# EAGLE library part MSP430F2274 (library GuShH)
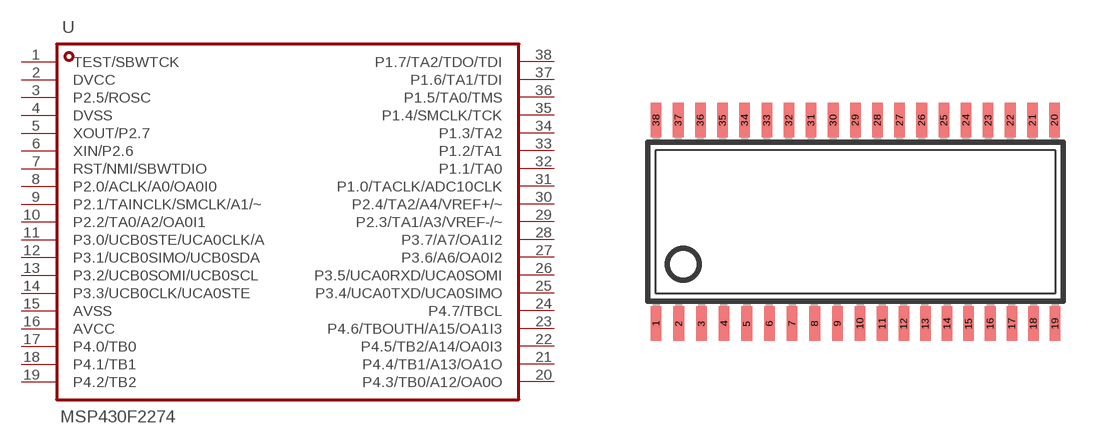
[diagram p9: symbol with the pads of 38-TSSOP; footprint 38-TSSOP]

Designator prefix -

## MSP430F2274IDAR  [38-TSSOP]
1  TEST/SBWTCK
2  DVCC
3  P2.5/ROSC
4  DVSS
5  XOUT/P2.7
6  XIN/P2.6
7  RST/NMI/SBWTDIO
8  P2.0/ACLK/A0/OA0I0
9  P2.1/TAINCLK/SMCLK/A1/~
10  P2.2/TA0/A2/OA0I1
11  P3.0/UCB0STE/UCA0CLK/A
12  P3.1/UCB0SIMO/UCB0SDA
13  P3.2/UCB0SOMI/UCB0SCL
14  P3.3/UCB0CLK/UCA0STE
15  AVSS
16  AVCC
17  P4.0/TB0
18  P4.1/TB1
19  P4.2/TB2
20  P4.3/TB0/A12/OA0O
21  P4.4/TB1/A13/OA1O
22  P4.5/TB2/A14/OA0I3
23  P4.6/TBOUTH/A15/OA1I3
24  P4.7/TBCL
25  P3.4/UCA0TXD/UCA0SIMO
26  P3.5/UCA0RXD/UCA0SOMI
27  P3.6/A6/OA0I2
28  P3.7/A7/OA1I2
29  P2.3/TA1/A3/VREF-/~
30  P2.4/TA2/A4/VREF+/~
31  P1.0/TACLK/ADC10CLK
32  P1.1/TA0
33  P1.2/TA1
34  P1.3/TA2
35  P1.4/SMCLK/TCK
36  P1.5/TA0/TMS
37  P1.6/TA1/TDI
38  P1.7/TA2/TDO/TDI

## Footprint 38-TSSOP (pad centres in mm)
smd 0.305 x 0.991: 1 -5.465,-2.918; 2 -4.815,-2.918; 3 -4.165,-2.918; 4 -3.515,-2.918; 5 -2.865,-2.918; 6 -2.215,-2.918; 7 -1.565,-2.918; 8 -0.915,-2.918; 9 -0.265,-2.918; 10 0.385,-2.918; 11 1.02,-2.924; 12 1.64,-2.924; 13 2.26,-2.924; 14 2.88,-2.924; 15 3.5,-2.924; 16 4.12,-2.924; 17 4.74,-2.924; 18 5.36,-2.924; 19 5.98,-2.924; 20 5.965,2.918; 21 5.33,2.918; 22 4.695,2.918; 23 4.06,2.918; 24 3.425,2.918; 25 2.79,2.918; 26 2.155,2.918; 27 1.52,2.918; 28 0.885,2.918; 29 0.25,2.918; 30 -0.385,2.918; 31 -1.02,2.918; 32 -1.655,2.918; 33 -2.29,2.918; 34 -2.925,2.918; 35 -3.56,2.918; 36 -4.195,2.918; 37 -4.83,2.918; 38 -5.465,2.918